# EAGLE library part AD8310 (library NewSDR)
Fast, Voltage-Out DC-440 MHz, 95 dB Logarithmic Amplifier
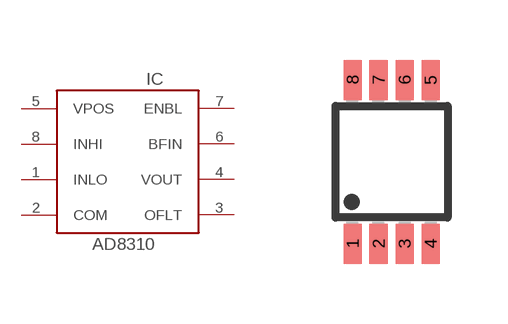
[diagram p70: symbol with the pads of MSOP8; footprint MSOP8]

Designator prefix IC

## AD8310  [MSOP8]
1  INLO  in
2  COM  pwr
3  OFLT  pas
4  VOUT  out
5  VPOS  pwr
6  BFIN  pas
7  ENBL  in
8  INHI  in

## Footprint MSOP8 (pad centres in mm)
Micro Small Outline Package
smd 0.45 x 1: 1 -0.975,-2.05; 2 -0.325,-2.05; 3 0.325,-2.05; 4 0.975,-2.05; 5 0.975,2.05; 6 0.325,2.05; 7 -0.325,2.05; 8 -0.975,2.05